# Altium footprint library custom-case.PcbLib: 168 footprints (part 2 of 11)
Each footprint in its own frame and in the unit in brackets; x right, y up, seen from the top. Pads: shape width x height; smd on the part's side, far side on the other; paste and mask are expansions set on the pad; w line width, h text height; cw(c..) or ccw(c..) is an arc to the next point about the centre after c.
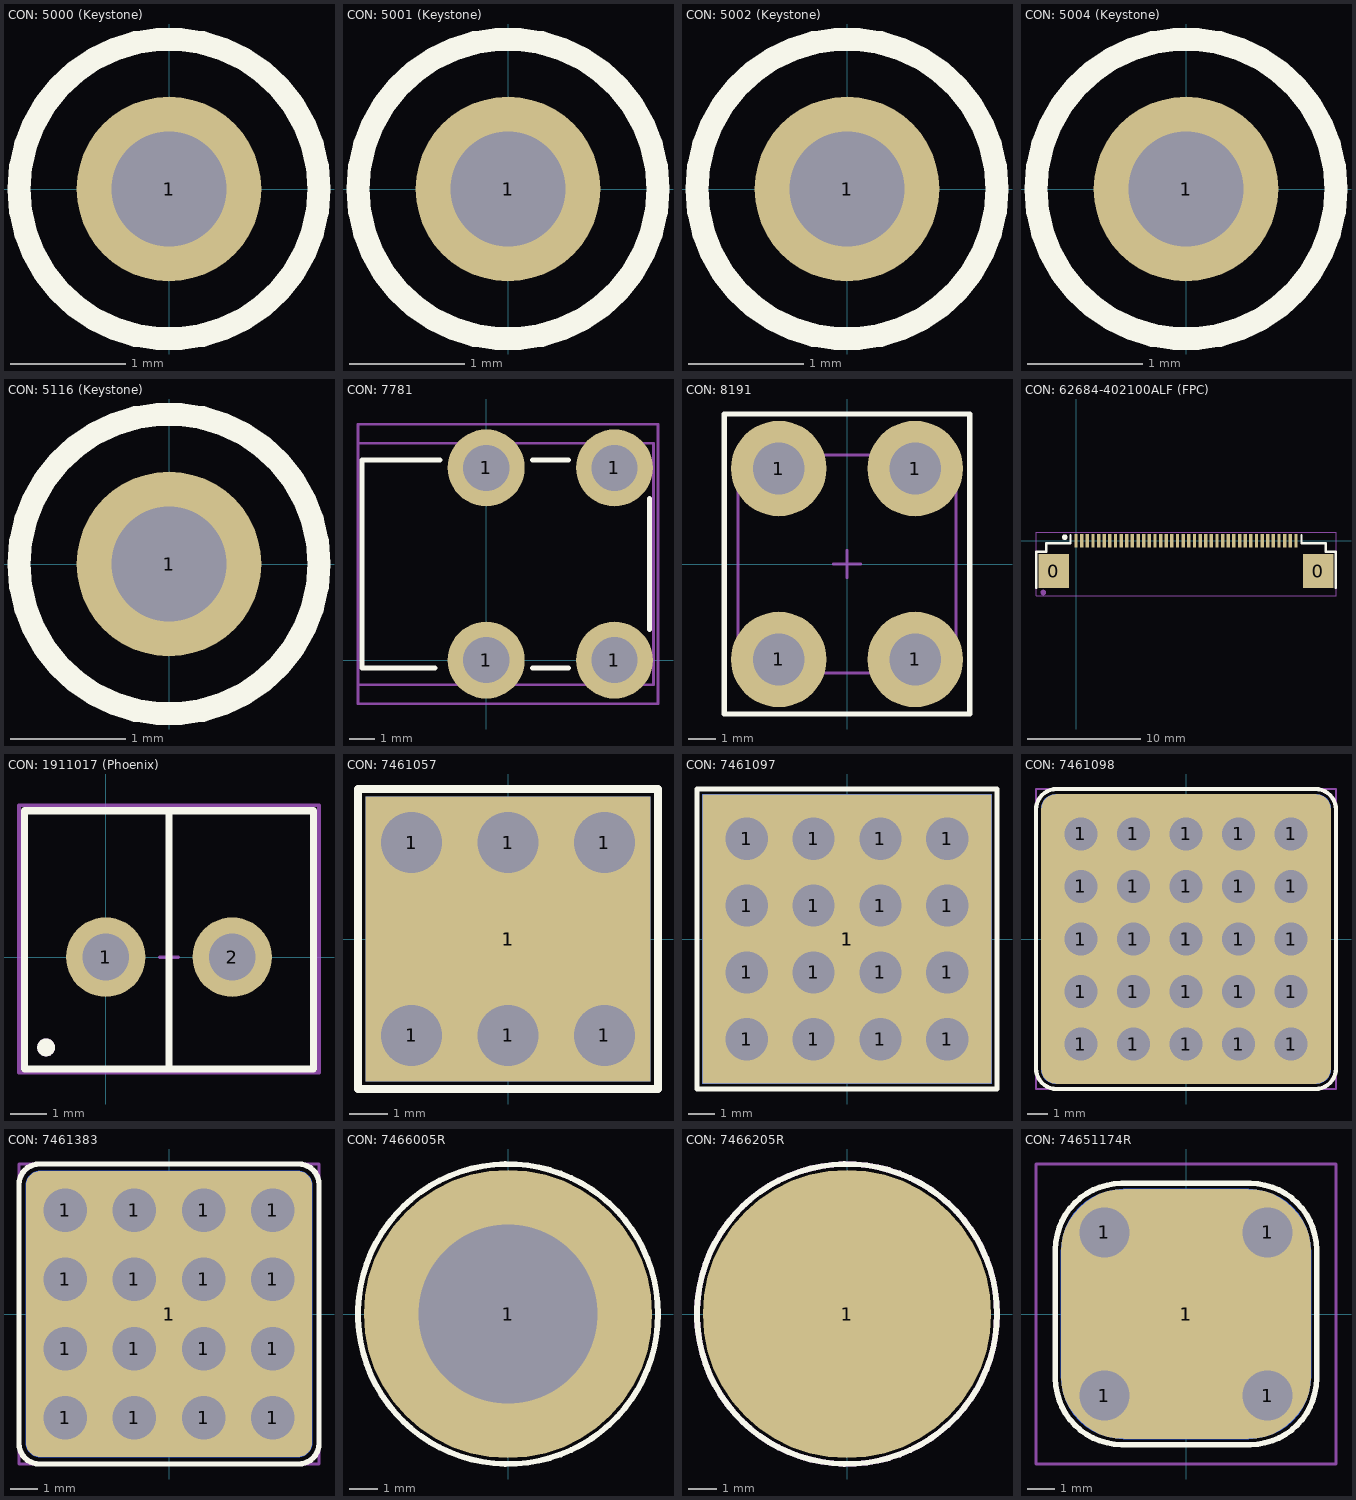
[diagram p1: the footprints below, top view; thin cyan lines are the x and y axes]

## CON: 5000 (Keystone) [mm]
pads (1):
  round 1.6 hole 1: 1(0,0)
Top Overlay:
  circle w0.2: c0,0 r1.3
Top Assy:
  circle w0.1: c0,0 r1.3
Size Area:
  circle w0.1: c0,0 r1.3
3D body "User Library-TEST POINT RED Keystone 5000.STEP": height 4.94, standoff -3.02, extent -1.27,-1.27 1.27,1.27

## CON: 5001 (Keystone) [mm]
pads (1):
  round 1.6 hole 1: 1(0,0)
Top Overlay:
  circle w0.2: c0,0 r1.3
Top Assy:
  circle w0.1: c0,0 r1.3
Size Area:
  circle w0.1: c0,0 r1.3
3D body "User Library-TEST POINT BLK Keystone 5001.STEP": height 4.94, standoff -3.02, extent -1.27,-1.27 1.27,1.27

## CON: 5002 (Keystone) [mm]
pads (1):
  round 1.6 hole 1: 1(0,0)
Top Overlay:
  circle w0.2: c0,0 r1.3
Top Assy:
  circle w0.1: c0,0 r1.3
Size Area:
  circle w0.1: c0,0 r1.3
3D body "User Library-TEST POINT WHT Keystone 5002.STEP": height 4.94, standoff -3.02, extent -1.27,-1.27 1.27,1.27

## CON: 5004 (Keystone) [mm]
pads (1):
  round 1.6 hole 1: 1(0,0)
Top Overlay:
  circle w0.2: c0,0 r1.3
Top Assy:
  circle w0.1: c0,0 r1.3
Size Area:
  circle w0.1: c0,0 r1.3
3D body "User Library-TEST POINT YEL Keystone 5004.STEP": height 4.94, standoff -3.02, extent -1.27,-1.27 1.27,1.27

## CON: 5116 (Keystone) [mm]
pads (1):
  round 1.6 hole 1: 1(0,0)
Top Overlay:
  circle w0.2: c0,0 r1.3
Top Assy:
  circle w0.1: c0,0 r1.3
Size Area:
  circle w0.1: c0,0 r1.3
3D body "User Library-TEST POINT GRN Keystone 5116.STEP": height 4.94, standoff -3.02, extent -1.27,-1.27 1.27,1.27

## CON: 7781 [mm]
pads (4):
  round 3 hole 1.8: 1(0,0) 1(0,7.5) 1(5,0) 1(5,7.5)
Top Overlay:
  lines w0.2: -2,-0.3 -4.85,-0.3 -4.85,7.8 -1.8,7.8 ; 1.8,-0.3 3.2,-0.3 ; 1.8,7.8 3.2,7.8 ; 6.375,1.2 6.375,6.3
Top Assy:
  lines w0.1: -5,-0.957 -5,8.457 6.523,8.457 6.523,-0.957 -5,-0.957
Size Area:
  lines w0.1: -5,-1.7 6.7,-1.7 6.7,9.2 -5,9.2 -5,-1.7
3D body "keystone-PN7781.STEP": height 8.01, standoff -4.99, extent -5,-0.957 6.523,8.457

## CON: 8191 [mm]
pads (4):
  round 3.5 hole 1.9: 1(-2.5,-3.5) 1(-2.5,3.5) 1(2.5,-3.5) 1(2.5,3.5)
Top Overlay:
  lines w0.2: -4.5,-5.5 -4.5,-2.5 -4.5,5.5 4.5,5.5 4.5,-5.5 -4.5,-5.5
Top Assy:
  lines w0.1: -4,-4 -4,4 4,4 4,-4 -4,-4
Size Area:
  lines w0.1: -0.5,0 0.5,0 ; 0,-0.5 0,0.5 ; -4.5,-5.5 -4.5,5.5 4.5,5.5 4.5,-5.5 -4.5,-5.5
3D body "User Library-Terminal 10A Keystone 8191.STEP": height 7.05, standoff -4.45, extent -4,-4 4,4

## CON: 62684-402100ALF (FPC) [mm]
pads (44):
  rect 2.7x3 smd: 0(-1.975,-2.7) 0(21.475,-2.7)
  rect 0.3x1.2 smd: 1(0,0) 2(0.5,0) 3(1,0) 4(1.5,0) 5(2,0) 6(2.5,0) 7(3,0) 8(3.5,0) 9(4,0) 10(4.5,0) 11(5,0) 12(5.5,0) 13(6,0) 14(6.5,0) 15(7,0) 16(7.5,0) 17(8,0) 18(8.5,0) 19(9,0) 20(9.5,0) 21(10,0) 22(10.5,0) 23(11,0) 24(11.5,0) 25(12,0) 26(12.5,0) 27(13,0) 28(13.5,0) 29(14,0) 30(14.5,0) 31(15,0) 32(15.5,0) 33(16,0) 34(16.5,0) 35(17,0) 36(17.5,0) 37(18,0) 38(18.5,0) 39(19,0) 40(19.5,0)
  round 0.5 on Mech1: ""(-2.9,-4.6)
  round 0.5 on Top Overlay: ""(-1,0.3)
Top Overlay:
  lines w0.2: -3.525,-4.2 -3.525,-1 -2.65,-1 -2.65,-0.225 -0.5,-0.225 -0.5,0.5 ; 20,0.5 20,-0.225 22.15,-0.225 22.15,-1 23.025,-1 23.025,-4.2
Size Area:
  lines w0.1: -3.55,-4.9 23.05,-4.9 23.05,0.75 -3.55,0.75 -3.55,-4.9
3D body "62684-402100ALF.SLDPRT": height 2.05, standoff 0, extent -3,-5.4 22.5,0.2

## CON: 1911017 (Phoenix) [mm]
pads (4):
  round 2.2 hole 1.3: 1(0,0) 2(3.5,0)
  round 0.5 on Mech1: ""(-1.65,-2.5)
  round 0.5 on Top Overlay: ""(-1.65,-2.5)
Top Overlay:
  lines w0.2: 1.75,-3.1 1.75,4.05 ; -2.25,-3.1 -2.25,4.05 5.75,4.05 5.75,-3.1 -2.25,-3.1
Top Assy:
  lines w0.1: -2.25,-3.1 -2.25,4.05 5.75,4.05 5.75,-3.1 -2.25,-3.1
Size Area:
  lines w0.1: 1.5,0 2,0 ; 1.75,-0.25 1.75,0.25 ; -2.4,-3.2 5.9,-3.2 5.9,4.2 -2.4,4.2 -2.4,-3.2
3D body "1731471.SLDPRT": height 9.31, standoff -3.29, extent -2.2,-3 5.7,4.25

## CON: 7461057 [mm]
pads (8):
  round 2.2 hole 1.6: 1(-2.54,-2.54) 1(-2.54,2.54) 1(0,-2.54) 1(0,2.54) 1(2.54,-2.54) 1(2.54,2.54)
  rect 7.5x7.5 smd: 1(0,0)
  rect 7.5x7.5 smd far side: 1(0,0)
Top Overlay:
  lines w0.2: -3.95,-3.95 3.95,-3.95 3.95,3.95 -3.95,3.95 -3.95,-3.95
Top Assy:
  lines w0.1: -3.95,-3.95 -3.95,3.95 3.95,3.95 3.95,-3.95 -3.95,-3.95
Size Area:
  lines w0.1: -0.5,0 0.5,0 ; 0,-0.5 0,0.5 ; -3.95,-3.95 -3.95,3.95 3.95,3.95 3.95,-3.95 -3.95,-3.95
3D body "8888.STEP": height 6.05, standoff -3.45, extent -3.5,-3.5 3.5,3.5

## CON: 7461097 [mm]
pads (18):
  round 2.5 hole 1.6: 1(-3.81,-3.81) 1(-3.81,-1.27) 1(-3.81,1.27) 1(-3.81,3.81) 1(-1.27,-3.81) 1(-1.27,-1.27) 1(-1.27,1.27) 1(-1.27,3.81) 1(1.27,-3.81) 1(1.27,-1.27) 1(1.27,1.27) 1(1.27,3.81) 1(3.81,-3.81) 1(3.81,-1.27) 1(3.81,1.27) 1(3.81,3.81)
  rect 11x11 smd: 1(0,0)
  rect 11x11 smd far side: 1(0,0)
Top Overlay:
  lines w0.2: -5.7,-5.7 5.7,-5.7 5.7,5.7 -5.7,5.7 -5.7,-5.7
Top Assy:
  lines w0.1: -5.7,-5.7 5.7,-5.7 5.7,5.7 -5.7,5.7 -5.7,-5.7
Size Area:
  lines w0.1: -1,0 1,0 ; 0,-1 0,1 ; -5.7,-5.7 5.7,-5.7 5.7,5.7 -5.7,5.7 -5.7,-5.7
3D body "5555.STEP": height 10.55, standoff -3.45, extent -5,-5 5,5

## CON: 7461098 [mm]
pads (27):
  round 2.5 hole 1.6: 1(-5.08,-5.08) 1(-5.08,-2.54) 1(-5.08,0) 1(-5.08,2.54) 1(-5.08,5.08) 1(-2.54,-5.08) 1(-2.54,-2.54) 1(-2.54,0) 1(-2.54,2.54) 1(-2.54,5.08) 1(0,-5.08) 1(0,-2.54) 1(0,0) 1(0,2.54) 1(0,5.08) 1(2.54,-5.08) 1(2.54,-2.54) 1(2.54,0) 1(2.54,2.54) 1(2.54,5.08) 1(5.08,-5.08) 1(5.08,-2.54) 1(5.08,0) 1(5.08,2.54) 1(5.08,5.08)
  rrect10% 14x14 smd: 1(0,0)
  rrect10% 14x14 smd far side: 1(0,0)
Top Overlay:
  lines w0.2: -7.25,-6.25 ccw(c-6.25,-6.25) -6.25,-7.25 6.25,-7.25 ccw(c6.25,-6.25) 7.25,-6.25 7.25,6.25 ccw(c6.25,6.25) 6.25,7.25 -6.25,7.25 ccw(c-6.25,6.25) -7.25,6.25 -7.25,-6.25
Top Assy:
  lines w0.1: -6.5,6.5 6.5,6.5 6.5,-6.5 ; -6.5,6.5 -6.5,-6.5 6.5,-6.5 ; -6.5,6.5 -6.5,6.5 ; 6.5,-6.5 6.5,-6.5
Size Area:
  lines w0.1: -0.5,0 0.5,0 ; 0,-0.5 0,0.5 ; -7.25,-7.25 7.25,-7.25 7.25,7.25 -7.25,7.25 -7.25,-7.25
3D body "74610981.STEP": height 15.5, standoff -3.5, extent -6.5,-6.5 6.5,6.5

## CON: 7461383 [mm]
pads (18):
  round 2.5 hole 1.6: 1(-3.81,-3.81) 1(-3.81,-1.27) 1(-3.81,1.27) 1(-3.81,3.81) 1(-1.27,-3.81) 1(-1.27,-1.27) 1(-1.27,1.27) 1(-1.27,3.81) 1(1.27,-3.81) 1(1.27,-1.27) 1(1.27,1.27) 1(1.27,3.81) 1(3.81,-3.81) 1(3.81,-1.27) 1(3.81,1.27) 1(3.81,3.81)
  rrect10% 10.5x10.5 smd: 1(0,0)
  rrect10% 10.5x10.5 smd far side: 1(0,0)
Top Overlay:
  lines w0.2: -5.5,-4.75 ccw(c-4.75,-4.75) -4.75,-5.5 4.75,-5.5 ccw(c4.75,-4.75) 5.5,-4.75 5.5,4.75 ccw(c4.75,4.75) 4.75,5.5 -4.75,5.5 ccw(c-4.75,4.75) -5.5,4.75 -5.5,-4.75
Top Assy:
  lines w0.1: -4.5,-4.5 4.5,-4.5 4.5,4.5 -4.5,4.5 ; -4.5,-4.5 -4.5,-4.5 ; -4.5,-4.5 -4.5,4.5 ; -4.5,4.5 -4.5,4.5
Size Area:
  lines w0.1: -0.5,0 0.5,0 ; 0,-0.5 0,0.5 ; -5.5,-5.5 -5.5,5.5 5.5,5.5 5.5,-5.5 -5.5,-5.5
3D body "7461383.STEP": height 12.5, standoff -3.5, extent -4.5,-4.5 4.5,4.5

## CON: 7466005R [mm]
pads (1):
  round 10 hole 6.2: 1(0,0)
Top Overlay:
  circle w0.2: c0,0 r5.2
Top Assy:
  circle w0.1: c0,0 r5.2
Size Area:
  circle w0.1: c0,0 r5.2
  lines w0.1: -1,0 1,0 ; 0,-1 0,1
3D body "Downloads_STP_7466005 (rev1).stp": height 5.1, standoff -0.9, extent -4.491,-4.5 4.491,4.464

## CON: 7466205R [mm]
pads (1):
  round 10 smd: 1(0,0)
Top Overlay:
  circle w0.2: c0,0 r5.2
Top Assy:
  circle w0.2: c0,0 r5.2
Size Area:
  circle w0.2: c0,0 r5.2
  lines w0.1: -1,0 1,0 ; 0,-1 0,1
3D body "Downloads_STP_7466205 (rev1).stp": height 7.02, standoff 0.02, extent -4.5,-4.5 4.5,4.5

## CON: 74651174R [mm]
pads (6):
  round 2.5 hole 1.8: 1(-2.94,-2.94) 1(-2.94,2.94) 1(2.94,-2.94) 1(2.94,2.94)
  rrect50% 9x9 smd: 1(0,0)
  rrect50% 9x9 smd far side: 1(0,0)
Top Overlay:
  lines w0.2: -4.7,-2.31 ccw(c-2.31,-2.31) -2.31,-4.7 2.31,-4.7 ccw(c2.31,-2.31) 4.7,-2.31 4.7,2.31 ccw(c2.31,2.31) 2.31,4.7 -2.31,4.7 ccw(c-2.31,2.31) -4.7,2.31 -4.7,-2.31
Top Assy:
  circle w0.1: c0,0 r1.5
  lines w0.1: 0,2 ccw(c0,0) 2,0 ; -3.5,-3.5 3.5,-3.5 3.5,3.5 -3.5,3.5 -3.5,-3.5
Size Area:
  lines w0.1: -5.4,-5.4 5.4,-5.4 5.4,5.4 -5.4,5.4 -5.4,-5.4
3D body "74651174 (rev1).stp": height 8.5, standoff -2.5, extent -3.5,-3.5 3.5,3.5